# Altium integrated library Resistors$.IntLib: 1243 symbols (part 4 of 7)
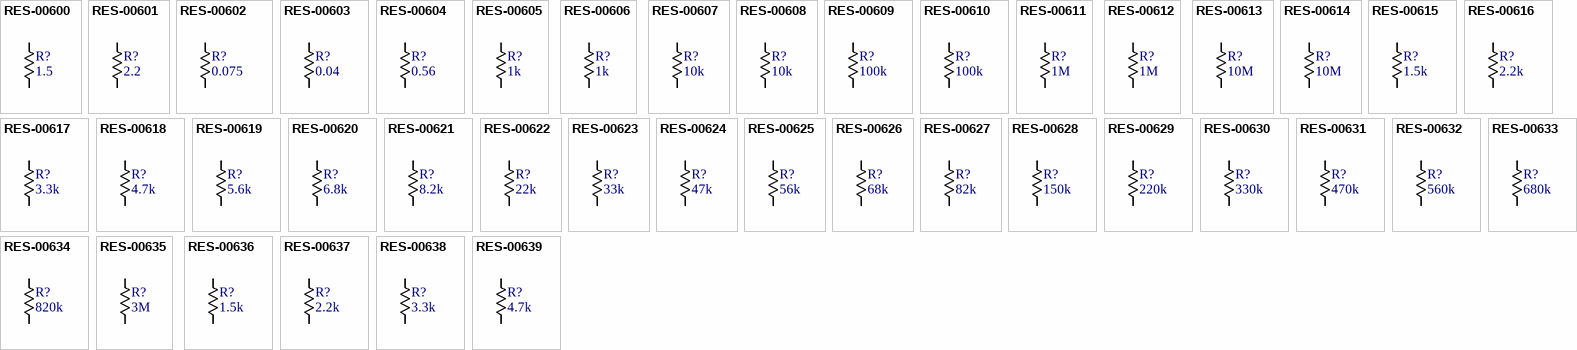
[diagram p35: symbols RES-00600 to RES-00639]

## RES-00618
designator R?, comment 4.7k
RES THT 4.7k OHM 1% 0.25W 0.3 AXIAL; Part Number: RES-00618; Resistance: 4.7k; Tolerance: 1%; Power Rating: 0.25W
footprint axial_0.3
pins: 1, 2

## RES-00619
designator R?, comment 5.6k
RES THT 5.6k OHM 1% 0.25W 0.3 AXIAL; Part Number: RES-00619; Resistance: 5.6k; Tolerance: 1%; Power Rating: 0.25W
footprint axial_0.3
pins: 1, 2

## RES-00620
designator R?, comment 6.8k
RES THT 6.8k OHM 1% 0.25W 0.3 AXIAL; Part Number: RES-00620; Resistance: 6.8k; Tolerance: 1%; Power Rating: 0.25W
footprint axial_0.3
pins: 1, 2

## RES-00621
designator R?, comment 8.2k
RES THT 8.2k OHM 1% 0.25W 0.3 AXIAL; Part Number: RES-00621; Resistance: 8.2k; Tolerance: 1%; Power Rating: 0.25W
footprint axial_0.3
pins: 1, 2

## RES-00622
designator R?, comment 22k
RES THT 22k OHM 1% 0.25W 0.3 AXIAL; Part Number: RES-00622; Resistance: 22k; Tolerance: 1%; Power Rating: 0.25W
footprint axial_0.3
pins: 1, 2

## RES-00623
designator R?, comment 33k
RES THT 33k OHM 1% 0.25W 0.3 AXIAL; Part Number: RES-00623; Resistance: 33k; Tolerance: 1%; Power Rating: 0.25W
footprint axial_0.3
pins: 1, 2

## RES-00624
designator R?, comment 47k
RES THT 47k OHM 1% 0.25W 0.3 AXIAL; Part Number: RES-00624; Resistance: 47k; Tolerance: 1%; Power Rating: 0.25W
footprint axial_0.3
pins: 1, 2

## RES-00625
designator R?, comment 56k
RES THT 56k OHM 1% 1/4W 0.3 AXIAL; Part Number: RES-00625; Resistance: 56k; Tolerance: 1%; Power Rating: 1/4W
footprint axial_0.3
pins: 1, 2

## RES-00626
designator R?, comment 68k
RES THT 68k OHM 1% 0.25W 0.3 AXIAL; Part Number: RES-00626; Resistance: 68k; Tolerance: 1%; Power Rating: 0.25W
footprint axial_0.3
pins: 1, 2

## RES-00627
designator R?, comment 82k
RES THT 82k OHM 1% 0.25W 0.3 AXIAL; Part Number: RES-00627; Resistance: 82k; Tolerance: 1%; Power Rating: 0.25W
footprint axial_0.3
pins: 1, 2

## RES-00628
designator R?, comment 150k
RES THT 150k OHM 1% 0.25W 0.3 AXIAL; Part Number: RES-00628; Resistance: 150k; Tolerance: 1%; Power Rating: 0.25W
footprint axial_0.3
pins: 1, 2

## RES-00629
designator R?, comment 220k
RES THT 220k OHM 1% 0.25W 0.3 AXIAL; Part Number: RES-00629; Resistance: 220k; Tolerance: 1%; Power Rating: 0.25W
footprint axial_0.3
pins: 1, 2

## RES-00630
designator R?, comment 330k
RES THT 330k OHM 1% 0.25W 0.3 AXIAL; Part Number: RES-00630; Resistance: 330k; Tolerance: 1%; Power Rating: 0.25W
footprint axial_0.3
pins: 1, 2

## RES-00631
designator R?, comment 470k
RES THT 470k OHM 1% 0.25W 0.3 AXIAL; Part Number: RES-00631; Resistance: 470k; Tolerance: 1%; Power Rating: 0.25W
footprint axial_0.3
pins: 1, 2

## RES-00632
designator R?, comment 560k
RES THT 560k OHM 1% 0.25W 0.3 AXIAL; Part Number: RES-00632; Resistance: 560k; Tolerance: 1%; Power Rating: 0.25W
footprint axial_0.3
pins: 1, 2

## RES-00633
designator R?, comment 680k
RES THT 680k OHM 1% 0.25W 0.3 AXIAL; Part Number: RES-00633; Resistance: 680k; Tolerance: 1%; Power Rating: 0.25W
footprint axial_0.3
pins: 1, 2

## RES-00634
designator R?, comment 820k
RES THT 820k OHM 1% 0.25W 0.3 AXIAL; Part Number: RES-00634; Resistance: 820k; Tolerance: 1%; Power Rating: 0.25W
footprint axial_0.3
pins: 1, 2

## RES-00635
designator R?, comment 3M
RES THT 3M OHM 1% 1/4W 0.3 AXIAL; Part Number: RES-00635; Resistance: 3M; Tolerance: 1%; Power Rating: 1/4W
footprint axial_0.3
pins: 1, 2

## RES-00636
designator R?, comment 1.5k
RES THT 1.5k OHM 1% 0.25W 0.4 AXIAL; Part Number: RES-00636; Resistance: 1.5k; Tolerance: 1%; Power Rating: 0.25W
footprint axial_0.4
pins: 1, 2

## RES-00637
designator R?, comment 2.2k
RES THT 2.2k OHM 1% 0.25W 0.4 AXIAL; Part Number: RES-00637; Resistance: 2.2k; Tolerance: 1%; Power Rating: 0.25W
footprint axial_0.4
pins: 1, 2

## RES-00638
designator R?, comment 3.3k
RES THT 3.3k OHM 1% 0.25W 0.4 AXIAL; Part Number: RES-00638; Resistance: 3.3k; Tolerance: 1%; Power Rating: 0.25W
footprint axial_0.4
pins: 1, 2

## RES-00639
designator R?, comment 4.7k
RES THT 4.7k OHM 1% 0.25W 0.4 AXIAL; Part Number: RES-00639; Resistance: 4.7k; Tolerance: 1%; Power Rating: 0.25W
footprint axial_0.4
pins: 1, 2

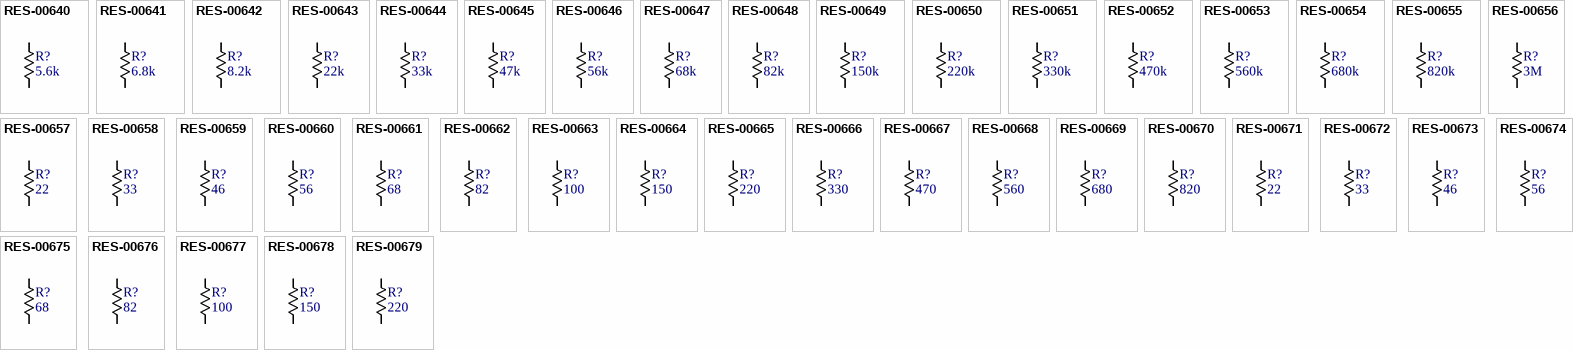
[diagram p16: symbols RES-00640 to RES-00679]

## RES-00640
designator R?, comment 5.6k
RES THT 5.6k OHM 1% 0.25W 0.4 AXIAL; Part Number: RES-00640; Resistance: 5.6k; Tolerance: 1%; Power Rating: 0.25W
footprint axial_0.4
pins: 1, 2

## RES-00641
designator R?, comment 6.8k
RES THT 6.8k OHM 1% 0.25W 0.4 AXIAL; Part Number: RES-00641; Resistance: 6.8k; Tolerance: 1%; Power Rating: 0.25W
footprint axial_0.4
pins: 1, 2

## RES-00642
designator R?, comment 8.2k
RES THT 8.2k OHM 1% 0.25W 0.4 AXIAL; Part Number: RES-00642; Resistance: 8.2k; Tolerance: 1%; Power Rating: 0.25W
footprint axial_0.4
pins: 1, 2

## RES-00643
designator R?, comment 22k
RES THT 22k OHM 1% 0.25W 0.4 AXIAL; Part Number: RES-00643; Resistance: 22k; Tolerance: 1%; Power Rating: 0.25W
footprint axial_0.4
pins: 1, 2

## RES-00644
designator R?, comment 33k
RES THT 33k OHM 1% 0.25W 0.4 AXIAL; Part Number: RES-00644; Resistance: 33k; Tolerance: 1%; Power Rating: 0.25W
footprint axial_0.4
pins: 1, 2

## RES-00645
designator R?, comment 47k
RES THT 47k OHM 1% 1/4W 0.4 AXIAL; Part Number: RES-00645; Resistance: 47k; Tolerance: 1%; Power Rating: 1/4W
footprint axial_0.4
pins: 1, 2

## RES-00646
designator R?, comment 56k
RES THT 56k OHM 1% 0.25W 0.4 AXIAL; Part Number: RES-00646; Resistance: 56k; Tolerance: 1%; Power Rating: 0.25W
footprint axial_0.4
pins: 1, 2

## RES-00647
designator R?, comment 68k
RES THT 68k OHM 1% 0.25W 0.4 AXIAL; Part Number: RES-00647; Resistance: 68k; Tolerance: 1%; Power Rating: 0.25W
footprint axial_0.4
pins: 1, 2

## RES-00648
designator R?, comment 82k
RES THT 82k OHM 1% 0.25W 0.4 AXIAL; Part Number: RES-00648; Resistance: 82k; Tolerance: 1%; Power Rating: 0.25W
footprint axial_0.4
pins: 1, 2

## RES-00649
designator R?, comment 150k
RES THT 150k OHM 1% 0.25W 0.4 AXIAL; Part Number: RES-00649; Resistance: 150k; Tolerance: 1%; Power Rating: 0.25W
footprint axial_0.4
pins: 1, 2

## RES-00650
designator R?, comment 220k
RES THT 220k OHM 1% 0.25W 0.4 AXIAL; Part Number: RES-00650; Resistance: 220k; Tolerance: 1%; Power Rating: 0.25W
footprint axial_0.4
pins: 1, 2

## RES-00651
designator R?, comment 330k
RES THT 330k OHM 1% 0.25W 0.4 AXIAL; Part Number: RES-00651; Resistance: 330k; Tolerance: 1%; Power Rating: 0.25W
footprint axial_0.4
pins: 1, 2

## RES-00652
designator R?, comment 470k
RES THT 470k OHM 1% 0.25W 0.4 AXIAL; Part Number: RES-00652; Resistance: 470k; Tolerance: 1%; Power Rating: 0.25W
footprint axial_0.4
pins: 1, 2

## RES-00653
designator R?, comment 560k
RES THT 560k OHM 1% 0.25W 0.4 AXIAL; Part Number: RES-00653; Resistance: 560k; Tolerance: 1%; Power Rating: 0.25W
footprint axial_0.4
pins: 1, 2

## RES-00654
designator R?, comment 680k
RES THT 680k OHM 1% 0.25W 0.4 AXIAL; Part Number: RES-00654; Resistance: 680k; Tolerance: 1%; Power Rating: 0.25W
footprint axial_0.4
pins: 1, 2

## RES-00655
designator R?, comment 820k
RES THT 820k OHM 1% 1/4W 0.4 AXIAL; Part Number: RES-00655; Resistance: 820k; Tolerance: 1%; Power Rating: 1/4W
footprint axial_0.4
pins: 1, 2

## RES-00656
designator R?, comment 3M
RES THT 3M OHM 1% 1/4W 0.4 AXIAL; Part Number: RES-00656; Resistance: 3M; Tolerance: 1%; Power Rating: 1/4W
footprint axial_0.4
pins: 1, 2

## RES-00657
designator R?, comment 22
RES THT 22 OHM 1% 0.25W 0.3 AXIAL; Part Number: RES-00657; Resistance: 22; Tolerance: 1%; Power Rating: 0.25W
footprint axial_0.3
pins: 1, 2

## RES-00658
designator R?, comment 33
RES THT 33 OHM 1% 0.25W 0.3 AXIAL; Part Number: RES-00658; Resistance: 33; Tolerance: 1%; Power Rating: 0.25W
footprint axial_0.3
pins: 1, 2

## RES-00659
designator R?, comment 46
RES THT 46 OHM 1% 0.25W 0.3 AXIAL; Part Number: RES-00659; Resistance: 46; Tolerance: 1%; Power Rating: 0.25W
footprint axial_0.3
pins: 1, 2

## RES-00660
designator R?, comment 56
RES THT 56 OHM 1% 0.25W 0.3 AXIAL; Part Number: RES-00660; Resistance: 56; Tolerance: 1%; Power Rating: 0.25W
footprint axial_0.3
pins: 1, 2

## RES-00661
designator R?, comment 68
RES THT 68 OHM 1% 0.25W 0.3 AXIAL; Part Number: RES-00661; Resistance: 68; Tolerance: 1%; Power Rating: 0.25W
footprint axial_0.3
pins: 1, 2

## RES-00662
designator R?, comment 82
RES THT 82 OHM 1% 0.25W 0.3 AXIAL; Part Number: RES-00662; Resistance: 82; Tolerance: 1%; Power Rating: 0.25W
footprint axial_0.3
pins: 1, 2

## RES-00663
designator R?, comment 100
RES THT 100 OHM 1% 0.25W 0.3 AXIAL; Part Number: RES-00663; Resistance: 100; Tolerance: 1%; Power Rating: 0.25W
footprint axial_0.3
pins: 1, 2

## RES-00664
designator R?, comment 150
RES THT 150 OHM 1% 0.25W 0.3 AXIAL; Part Number: RES-00664; Resistance: 150; Tolerance: 1%; Power Rating: 0.25W
footprint axial_0.3
pins: 1, 2

## RES-00665
designator R?, comment 220
RES THT 220 OHM 1% 0.25W 0.3 AXIAL; Part Number: RES-00665; Resistance: 220; Tolerance: 1%; Power Rating: 0.25W
footprint axial_0.3
pins: 1, 2

## RES-00666
designator R?, comment 330
RES THT 330 OHM 1% 0.25W 0.3 AXIAL; Part Number: RES-00666; Resistance: 330; Tolerance: 1%; Power Rating: 0.25W
footprint axial_0.3
pins: 1, 2

## RES-00667
designator R?, comment 470
RES THT 470 OHM 1% 0.25W 0.3 AXIAL; Part Number: RES-00667; Resistance: 470; Tolerance: 1%; Power Rating: 0.25W
footprint axial_0.3
pins: 1, 2

## RES-00668
designator R?, comment 560
RES THT 560 OHM 1% 0.25W 0.3 AXIAL; Part Number: RES-00668; Resistance: 560; Tolerance: 1%; Power Rating: 0.25W
footprint axial_0.3
pins: 1, 2

## RES-00669
designator R?, comment 680
RES THT 680 OHM 1% 0.25W 0.3 AXIAL; Part Number: RES-00669; Resistance: 680; Tolerance: 1%; Power Rating: 0.25W
footprint axial_0.3
pins: 1, 2

## RES-00670
designator R?, comment 820
RES THT 820 OHM 1% 0.25W 0.3 AXIAL; Part Number: RES-00670; Resistance: 820; Tolerance: 1%; Power Rating: 0.25W
footprint axial_0.3
pins: 1, 2

## RES-00671
designator R?, comment 22
RES THT 22 OHM 1% 0.25W 0.4 AXIAL; Part Number: RES-00671; Resistance: 22; Tolerance: 1%; Power Rating: 0.25W
footprint axial_0.4
pins: 1, 2

## RES-00672
designator R?, comment 33
RES THT 33 OHM 1% 0.25W 0.4 AXIAL; Part Number: RES-00672; Resistance: 33; Tolerance: 1%; Power Rating: 0.25W
footprint axial_0.4
pins: 1, 2

## RES-00673
designator R?, comment 46
RES THT 46 OHM 1% 0.25W 0.4 AXIAL; Part Number: RES-00673; Resistance: 46; Tolerance: 1%; Power Rating: 0.25W
footprint axial_0.4
pins: 1, 2

## RES-00674
designator R?, comment 56
RES THT 56 OHM 1% 0.25W 0.4 AXIAL; Part Number: RES-00674; Resistance: 56; Tolerance: 1%; Power Rating: 0.25W
footprint axial_0.4
pins: 1, 2

## RES-00675
designator R?, comment 68
RES THT 68 OHM 1% 0.25W 0.4 AXIAL; Part Number: RES-00675; Resistance: 68; Tolerance: 1%; Power Rating: 0.25W
footprint axial_0.4
pins: 1, 2

## RES-00676
designator R?, comment 82
RES THT 82 OHM 1% 0.25W 0.4 AXIAL; Part Number: RES-00676; Resistance: 82; Tolerance: 1%; Power Rating: 0.25W
footprint axial_0.4
pins: 1, 2

## RES-00677
designator R?, comment 100
RES THT 100 OHM 1% 1/4W 0.4 AXIAL; Part Number: RES-00677; Resistance: 100; Tolerance: 1%; Power Rating: 1/4W
footprint axial_0.4
pins: 1, 2

## RES-00678
designator R?, comment 150
RES THT 150 OHM 1% 1/4W 0.4 AXIAL; Part Number: RES-00678; Resistance: 150; Tolerance: 1%; Power Rating: 1/4W
footprint axial_0.4
pins: 1, 2

## RES-00679
designator R?, comment 220
RES THT 220 OHM 1% 0.25W 0.4 AXIAL; Part Number: RES-00679; Resistance: 220; Tolerance: 1%; Power Rating: 0.25W
footprint axial_0.4
pins: 1, 2

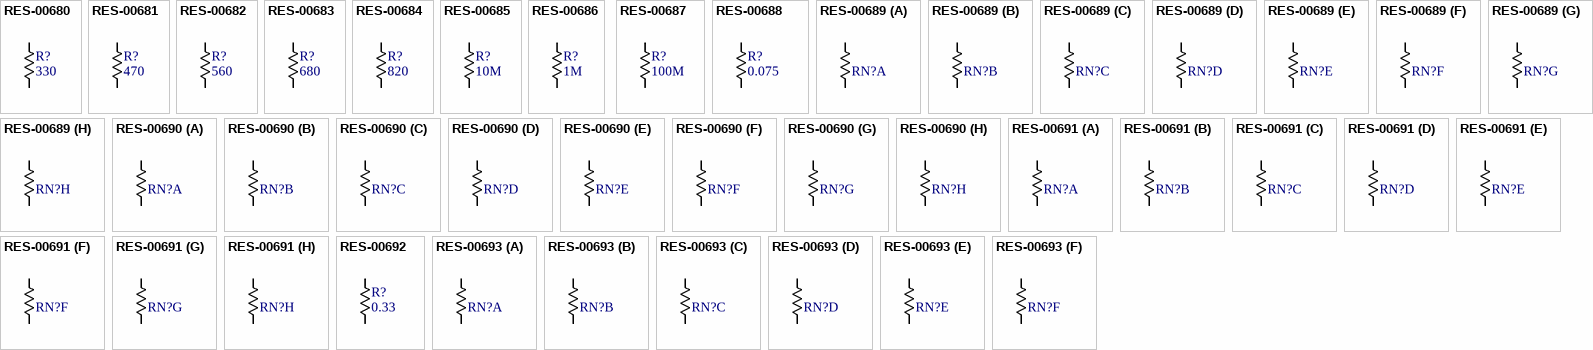
[diagram p17: symbols RES-00680 to RES-00693]

## RES-00680
designator R?, comment 330
RES THT 330 OHM 1% 0.25W 0.4 AXIAL; Part Number: RES-00680; Resistance: 330; Tolerance: 1%; Power Rating: 0.25W
footprint axial_0.4
pins: 1, 2

## RES-00681
designator R?, comment 470
RES THT 470 OHM 1% 0.25W 0.4 AXIAL; Part Number: RES-00681; Resistance: 470; Tolerance: 1%; Power Rating: 0.25W
footprint axial_0.4
pins: 1, 2

## RES-00682
designator R?, comment 560
RES THT 560 OHM 1% 0.25W 0.4 AXIAL; Part Number: RES-00682; Resistance: 560; Tolerance: 1%; Power Rating: 0.25W
footprint axial_0.4
pins: 1, 2

## RES-00683
designator R?, comment 680
RES THT 680 OHM 1% 0.25W 0.4 AXIAL; Part Number: RES-00683; Resistance: 680; Tolerance: 1%; Power Rating: 0.25W
footprint axial_0.4
pins: 1, 2

## RES-00684
designator R?, comment 820
RES THT 820 OHM 1% 0.25W 0.4 AXIAL; Part Number: RES-00684; Resistance: 820; Tolerance: 1%; Power Rating: 0.25W
footprint axial_0.4
pins: 1, 2

## RES-00685
designator R?, comment 10M
RES THT 10M OHM 1% 0.6W 0.4 AXIAL; Part Number: RES-00685; Manufacturer: Vishay BC Components; Manufacturer PN: MBB02070C1005FCT00; Resistance: 10M; Tolerance: 1%; Power Rating: 0.6W
footprint axial_0.4_1
pins: 1, 2

## RES-00686
designator R?, comment 1M
RES THT 1M OHM 1% 0.6W 0.4 AXIAL; Part Number: RES-00686; Manufacturer: Vishay BC Components; Manufacturer PN: MBB02070C1004FRP00; Resistance: 1M; Tolerance: 1%; Power Rating: 0.6W
footprint axial_0.4_1
pins: 1, 2

## RES-00687
designator R?, comment 100M
RES THT 100M OHM 1% 0.5W 0.4 AXIAL; Part Number: RES-00687; Manufacturer: Vishay Dale; Manufacturer PN: RNX025100MFKEE; Resistance: 100M; Tolerance: 1%; Power Rating: 0.5W
footprint axial_0.5
pins: 1, 2

## RES-00688
designator R?, comment 0.075
RES THT 0.075 OHM 1% 100W TO-247-2 Board Mounted; Part Number: RES-00688; Manufacturer: Caddock; Manufacturer PN: MP9100-0.075-1%; Resistance: 0.075; Tolerance: 1%; Power Rating: 100W
footprint TO-247-2-H
pins: 1, 2

## RES-00689
designator RN?, comment res_array_8  (value not drawn)
RES ARRAY 8 RES 100k OHM 5% 1/16W 1506; Part Number: RES-00689; Manufacturer: Panasonic; Manufacturer PN: EXB-2HV104JV; Resistance: 100k; Tolerance: 5%; Power Rating: 1/16W
footprint chip_1506
part A pins: 1, 16
part B pins: 2, 15
part C pins: 3, 14
part D pins: 4, 13
part E pins: 5, 12
part F pins: 6, 11
part G pins: 7, 10
part H pins: 8, 9

## RES-00690
designator RN?, comment res_array_8  (value not drawn)
RES ARRAY 8 RES 10k OHM 5% 1/16W 1506; Part Number: RES-00690; Manufacturer: Panasonic; Manufacturer PN: EXB-2HV103JV; Resistance: 10k; Tolerance: 5%; Power Rating: 1/16W
footprint chip_1506
part A pins: 1, 16
part B pins: 2, 15
part C pins: 3, 14
part D pins: 4, 13
part E pins: 5, 12
part F pins: 6, 11
part G pins: 7, 10
part H pins: 8, 9

## RES-00691
designator RN?, comment res_array_8  (value not drawn)
RES ARRAY 8 RES 120 OHM 5% 1/16W 1506; Part Number: RES-00691; Manufacturer: Panasonic; Manufacturer PN: EXB-2HV121JV; Resistance: 120; Tolerance: 5%; Power Rating: 1/16W
footprint chip_1506
part A pins: 1, 16
part B pins: 2, 15
part C pins: 3, 14
part D pins: 4, 13
part E pins: 5, 12
part F pins: 6, 11
part G pins: 7, 10
part H pins: 8, 9

## RES-00692
designator R?, comment 0.33
RES SMD 0.33 OHM 1% 1W 2512; Part Number: RES-00692; Manufacturer: Panasonic; Manufacturer PN: ERJ-1TRQFR33U; Resistance: 0.33; Tolerance: 1%; Power Rating: 1W; Cost: 0.64
footprint chip_2512
pins: 1, 2

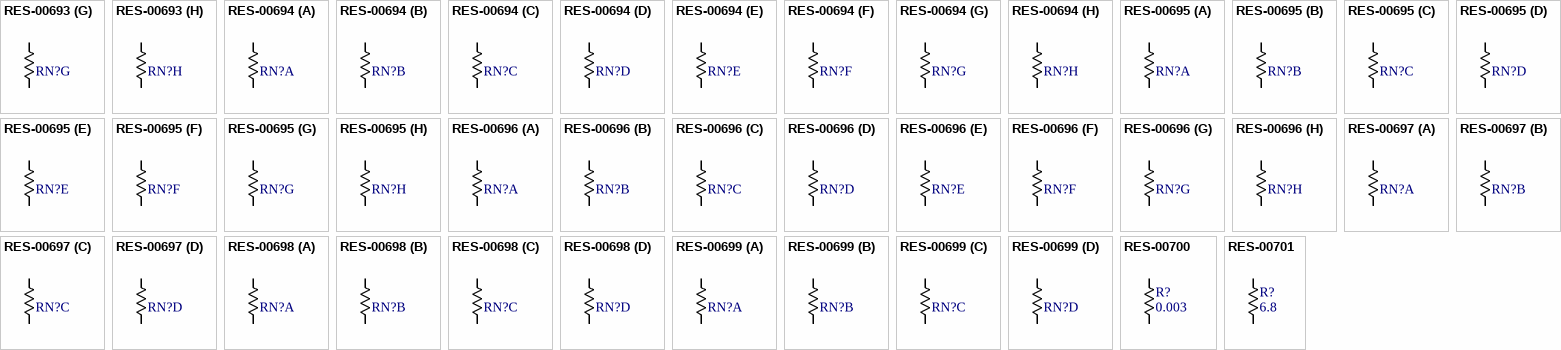
[diagram p18: symbols RES-00693 to RES-00701]

## RES-00693
designator RN?, comment res_array_8  (value not drawn)
RES ARRAY 8 RES 470 OHM 5% 1/16W 1506; Part Number: RES-00693; Manufacturer: Panasonic; Manufacturer PN: EXB-2HV471JV; Resistance: 470; Tolerance: 5%; Power Rating: 1/16W; Cost: 0.29
footprint chip_1506
part A pins: 1, 16
part B pins: 2, 15
part C pins: 3, 14
part D pins: 4, 13
part E pins: 5, 12
part F pins: 6, 11
part G pins: 7, 10
part H pins: 8, 9

## RES-00694
designator RN?, comment res_array_8  (value not drawn)
RES ARRAY 8 RES 10k OHM 5% 1/16W 2506; Part Number: RES-00694; Manufacturer: CTS Resistor Products; Manufacturer PN: 742C163103JP; Resistance: 10k; Tolerance: 5%; Power Rating: 1/16W; Cost: 0.61
footprint chip_2506
part A pins: 1, 16
part B pins: 2, 15
part C pins: 3, 14
part D pins: 4, 13
part E pins: 5, 12
part F pins: 6, 11
part G pins: 7, 10
part H pins: 8, 9

## RES-00695
designator RN?, comment res_array_8  (value not drawn)
RES ARRAY 8 RES 470 OHM 5% 1/16W 2506; Part Number: RES-00695; Manufacturer: CTS Resistor Products; Manufacturer PN: 742C163471JP; Resistance: 470; Tolerance: 5%; Power Rating: 1/16W; Cost: 0.61
footprint chip_2506
part A pins: 1, 16
part B pins: 2, 15
part C pins: 3, 14
part D pins: 4, 13
part E pins: 5, 12
part F pins: 6, 11
part G pins: 7, 10
part H pins: 8, 9

## RES-00696
designator RN?, comment res_array_8  (value not drawn)
RES ARRAY 8 RES 120 OHM 2% 160mW 16-SOIC; Part Number: RES-00696; Manufacturer: Bourns; Manufacturer PN: 4816P-1-121LF; Resistance: 120; Tolerance: 2%; Power Rating: 160mW; Cost: 1.31
footprint SO-16
part A pins: 1, 16
part B pins: 2, 15
part C pins: 3, 14
part D pins: 4, 13
part E pins: 5, 12
part F pins: 6, 11
part G pins: 7, 10
part H pins: 8, 9

## RES-00697
designator RN?, comment res_array_4  (value not drawn)
RES ARRAY 4 RES 10k OHM 5% 1/16W 1206; Part Number: RES-00697; Manufacturer: CTS Resistor Products; Manufacturer PN: 742C083103JP; Resistance: 10k; Tolerance: 5%; Power Rating: 1/16W; Cost: 0.27
footprint chip_1206_arr
part A pins: 1, 8
part B pins: 2, 7
part C pins: 3, 6
part D pins: 4, 5

## RES-00698
designator RN?, comment res_array_4  (value not drawn)
RES ARRAY 4 RES 470 OHM 5% 1/16W 1206; Part Number: RES-00698; Manufacturer: Panasonic; Manufacturer PN: EXB-38V471JV; Resistance: 470; Tolerance: 5%; Power Rating: 1/16W; Cost: 0.1
footprint chip_1206_arr
part A pins: 1, 8
part B pins: 2, 7
part C pins: 3, 6
part D pins: 4, 5

## RES-00699
designator RN?, comment res_array_4  (value not drawn)
RES ARRAY 4 RES 1.5k OHM 5% 1/16W 1206; Part Number: RES-00699; Manufacturer: Panasonic; Manufacturer PN: EXB-28V152JX; Resistance: 1.5k; Tolerance: 5%; Power Rating: 1/16W; Cost: 0.1
footprint chip_1206_arr
part A pins: 1, 8
part B pins: 2, 7
part C pins: 3, 6
part D pins: 4, 5

## RES-00700
designator R?, comment 0.003
RES SMD 0.003 OHM 1% 7W 2818; Part Number: RES-00700; Manufacturer: Vishay Dale; Manufacturer PN: WSHM28183L000FEA; Resistance: 0.003; Tolerance: 1%; Power Rating: 7W; Cost: 1.86
footprint CHIP_2818_VISHAY
pins: 1, 2

## RES-00701
designator R?, comment 6.8
RES SMD 6.8 OHM 5% 1.5W 2512; Part Number: RES-00701; Manufacturer: Stackpole; Manufacturer PN: RPC2512JT6R80; Resistance: 6.8; Tolerance: 5%; Power Rating: 1.5W; Cost: 0.57
footprint chip_2512
pins: 1, 2

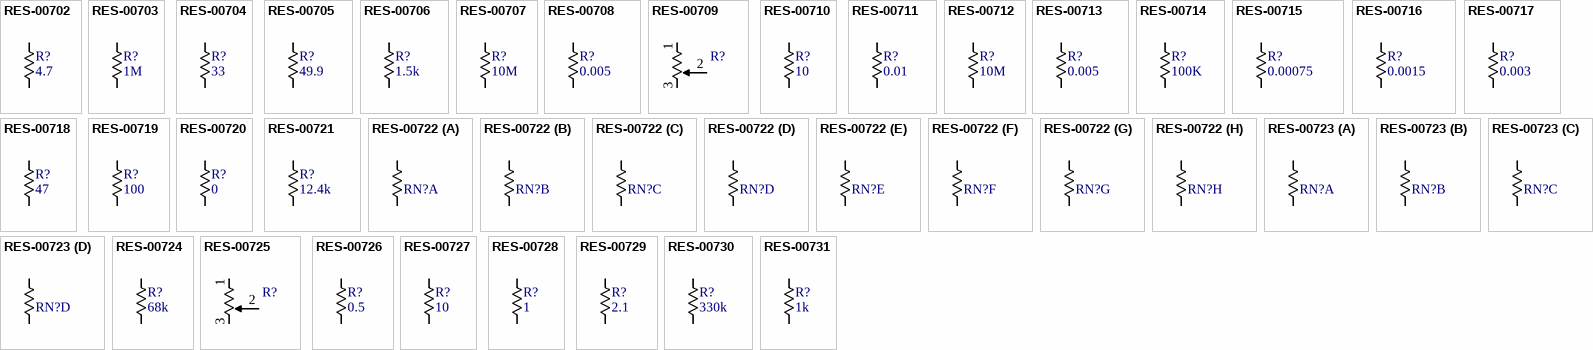
[diagram p19: symbols RES-00702 to RES-00731]

## RES-00702
designator R?, comment 4.7
RES SMD 4.7 OHM 5% 2W 2512; Part Number: RES-00702; Manufacturer: Bourns; Manufacturer PN: CRM2512-JW-4R7ELF; Resistance: 4.7; Tolerance: 5%; Power Rating: 2W; Cost: 0.57
footprint chip_2512
pins: 1, 2

## RES-00703
designator R?, comment 1M
RES SMD 1M OHM 1% 1W 2512, High Voltage, Thick Film; Part Number: RES-00703; Manufacturer: Bourns; Manufacturer PN: CHV2512-FX-1004ELF; Resistance: 1M; Tolerance: 1%; Power Rating: 1W; Cost: 0.66
footprint chip_2512
pins: 1, 2

## RES-00704
designator R?, comment 33
RES SMD 33 OHM 5% 1.5W 2512; Part Number: RES-00704; Manufacturer: Stackpole; Manufacturer PN: RPC2512JT33R0; Resistance: 33; Tolerance: 5%; Power Rating: 1.5W; Cost: 0.57
footprint chip_2512
pins: 1, 2

## RES-00705
designator R?, comment 49.9
RES SMD 49.9 OHM 1% 1/10W 0603; Part Number: RES-00705; Manufacturer: Yageo; Manufacturer PN: RC0603FR-0749R9L; Resistance: 49.9; Tolerance: 1%; Power Rating: 1/10W; Cost: 0.1
footprint chip_0603
pins: 1, 2

## RES-00706
designator R?, comment 1.5k
RES SMD 1.5K OHM 1% 1/4W 1206; Part Number: RES-00706; Manufacturer: Bourns; Manufacturer PN: CR1206-FX-1501ELF; Resistance: 1.5k; Tolerance: 1%; Power Rating: 1/4W; Cost: 0.1
footprint chip_1206
pins: 1, 2

## RES-00707
designator R?, comment 10M
RES SMD 10M OHM 1% 1W 2512, High Voltage, Thick Film; Part Number: RES-00707; Manufacturer: Bourns; Manufacturer PN: CHV2512-FX-1005ELF; Resistance: 10M; Tolerance: 1%; Power Rating: 1W; Cost: 0.66
footprint chip_2512
pins: 1, 2

## RES-00708
designator R?, comment 0.005
RES SMD 0.005 OHM 1% 3W 2512, Current Sense, 50ppm/°C; Part Number: RES-00708; Manufacturer: Bourns; Manufacturer PN: CRE2512-FZ-R005E-3; Resistance: 0.005; Tolerance: 1%; Power Rating: 3W; Cost: 0.81
footprint chip_2512_cs
pins: 1, 2

## RES-00709
designator R?, comment res_single_pot  (value not drawn)
VARRES, 10K, 20% 250mW, SMD; Part Number: RES-00709; Manufacturer: Bourns; Manufacturer PN: PVG3A103C01R00; Power Rating: 1/4W; Resistance: 10k; Tolerance: 20%; Cost: 1.57
footprint BOURNS_PVG3A103C01R00
pins: 1, 2, 3

## RES-00710
designator R?, comment 10
RES THT 10 OHM 5% 2W AXIAL, Fusible; Part Number: RES-00710; Manufacturer: Bourns; Manufacturer PN: FW20A10R0JA; Resistance: 10; Tolerance: 5%; Power Rating: 2W; Cost: 0.58
footprint BOURNS_FWXXA
pins: 1, 2

## RES-00711
designator R?, comment 0.01
RES SMD 0.01 OHM 1% 3W 2512, Current Sense; Part Number: RES-00711; Manufacturer: Bourns; Manufacturer PN: CRA2512-FZ-R010ELF; Resistance: 0.01; Tolerance: 1%; Power Rating: 3W; Cost: 0.66
footprint chip_2512_cs
pins: 1, 2

## RES-00712
designator R?, comment 10M
RES SMD 10M OHM 1% 1/4W 1206, High Voltage; Part Number: RES-00712; Manufacturer: Rohm Semiconductor; Manufacturer PN: KTR18EZPF1005; Resistance: 10M; Tolerance: 1%; Power Rating: 1/4W; Cost: 0.2
footprint chip_1206
pins: 1, 2

## RES-00713
designator R?, comment 0.005
RES SMD 0.005 OHM 1% 4W 2728 25ppm, Current Sense; Part Number: RES-00713; Manufacturer: Stackpole; Manufacturer PN: CSSH2728FT5L00; Resistance: 0.005; Tolerance: 1%; Power Rating: 4W; Cost: 1.19
footprint chip_2728
pins: 1, 2

## RES-00714
designator R?, comment 100K
RES SMD 100K OHM 1% 1/4W 1206 Thick Film; Part Number: RES-00714; Manufacturer: Yageo; Manufacturer PN: RC1206FR-07100KL; Resistance: 100K; Tolerance: 1%; Power Rating: 1/4W; Cost: 0.1
footprint chip_1206
pins: 1, 2

## RES-00715
designator R?, comment 0.00075
RES SMD 0.00075 OHM 1% 2W 2512 50ppm, Current Sense; Part Number: RES-00715; Manufacturer: TE Connectivity; Manufacturer PN: TLR3A20DR00075FTDG; Resistance: 0.00075; Tolerance: 1%; Power Rating: 2W; Cost: 0.92
footprint chip_2512
pins: 1, 2

## RES-00716
designator R?, comment 0.0015
RES SMD 0.0015 OHM 1% 3W 2512 50ppm, Current Sense; Part Number: RES-00716; Manufacturer: TE Connectivity; Manufacturer PN: TLR3A30DR0015FTDG; Resistance: 0.0015; Tolerance: 1%; Power Rating: 3W; Cost: 1.04
footprint chip_2512
pins: 1, 2

## RES-00717
designator R?, comment 0.003
RES SMD 0.003 OHM 1%  1W 1206 50ppm, Current Sense; Part Number: RES-00717; Manufacturer: TE Connectivity; Manufacturer PN: TLR2B10DR003FTDG; Resistance: 0.003; Tolerance: 1%; Power Rating: 1W; Cost: 0.92
footprint chip_1206
pins: 1, 2

## RES-00718
designator R?, comment 47
RES THT 47 OHM 5% 2W AXIAL, Fusible; Part Number: RES-00718; Manufacturer: Bourns; Manufacturer PN: FW20A47R0JA; Resistance: 47; Tolerance: 5%; Power Rating: 2W; Cost: 0.58
footprint BOURNS_FWXXA
pins: 1, 2

## RES-00719
designator R?, comment 100
RES THT 100 OHM 5% 4W AXIAL, Fusible; Part Number: RES-00719; Manufacturer: Stackpole; Manufacturer PN: SP3AJT100R; Resistance: 100; Tolerance: 5%; Power Rating: 4W; Cost: 0.6
footprint BOURNS_FWXXA
pins: 1, 2

## RES-00720
designator R?, comment 0
RES SMD 0 OHM 1/8W 0805 Thick Film; Part Number: RES-00720; Manufacturer: Stackpole; Manufacturer PN: RMCF0805ZT0R00; Tolerance: Jumper; Resistance: 0; Power Rating: 1/8W; Cost: 0.1
footprint chip_0805
pins: 1, 2

## RES-00721
designator R?, comment 12.4k
RES SMD 12.4K OHM 1% 1/10W 0603; Part Number: RES-00721; Manufacturer: Stackpole; Manufacturer PN: RMCF0603FT12K4; Resistance: 12.4k; Tolerance: 1%; Power Rating: 1/10W; Cost: 0.1
footprint chip_0603
pins: 1, 2

## RES-00722
designator RN?, comment res_array_8  (value not drawn)
RES ARRAY 8 RES 100 OHM 5% 62.5mW 1506; Part Number: RES-00722; Manufacturer: Panasonic; Manufacturer PN: EXB-2HV101JV; Resistance: 100; Power Rating: 1/16W; Tolerance: 5%; Cost: 0.29
footprint chip_1506
part A pins: 1, 16
part B pins: 2, 15
part C pins: 3, 14
part D pins: 4, 13
part E pins: 5, 12
part F pins: 6, 11
part G pins: 7, 10
part H pins: 8, 9

## RES-00723
designator RN?, comment res_array_4  (value not drawn)
RES ARRAY 4 RES 100 OHM 5% 62.5mW 1206; Part Number: RES-00723; Manufacturer: Panasonic; Manufacturer PN: EXB-38V101JV; Resistance: 100; Power Rating: 1/16W; Tolerance: 5%; Cost: 0.1
footprint chip_1206_arr
part A pins: 1, 8
part B pins: 2, 7
part C pins: 3, 6
part D pins: 4, 5

## RES-00724
designator R?, comment 68k
RES SMD 68K OHM 1% 1/8W 0805 100ppm; Part Number: RES-00724; Manufacturer: Yageo; Manufacturer PN: RC0805FR-0768KL; Resistance: 68k; Tolerance: 1%; Power Rating: 1/8W; Cost: 0.1
footprint chip_0805
pins: 1, 2

## RES-00725
designator R?, comment res_single_pot  (value not drawn)
VARRES 10K 10% 0.5W THT; Part Number: RES-00725; Manufacturer: Bourns; Manufacturer PN: 3362P-1-103LF; Power Rating: 1/2W; Resistance: 10k; Tolerance: 10%; Cost: 1.02
footprint BOURNS_3362P-1-103LF
pins: 1, 2, 3

## RES-00726
designator R?, comment 0.5
RES THT 0.5 OHM 5% 2W Axial, Fusible; Part Number: RES-00726; Manufacturer: Yageo; Manufacturer PN: FKN2WSJR-73-0R5; Resistance: 0.5; Tolerance: 5%; Power Rating: 2W; Cost: 0.5
footprint AXIAL_0.5_1
pins: 1, 2

## RES-00727
designator R?, comment 10
RES THT 10 OHM 1% 1/4W Axial; Part Number: RES-00727; Resistance: 10; Tolerance: 1%; Power Rating: 1/4W
footprint AXIAL_0.4_2
pins: 1, 2

## RES-00728
designator R?, comment 1
RES SMD 1 OHM 1% 1/4W 1206 100ppm/°C; Part Number: RES-00728; Manufacturer: Vishay Dale; Manufacturer PN: CRCW12061R00FKEA; Resistance: 1; Tolerance: 1%; Power Rating: 1/4W; Cost: 0.1
footprint chip_1206
pins: 1, 2

## RES-00729
designator R?, comment 2.1
RES SMD 2.1 OHM 1% 1/4W 1206 100ppm/°C; Part Number: RES-00729; Manufacturer: Vishay Dale; Manufacturer PN: CRCW12062R10FKEA; Resistance: 2.1; Tolerance: 1%; Power Rating: 1/4W; Cost: 0.1
footprint chip_1206
pins: 1, 2

## RES-00730
designator R?, comment 330k
RES SMD 330K OHM 1% 1/4W 1206 100ppm/°C; Part Number: RES-00730; Manufacturer: Vishay Dale; Manufacturer PN: CRCW1206330KFKEA; Resistance: 330k; Tolerance: 1%; Power Rating: 1/4W; Cost: 0.1
footprint chip_1206
pins: 1, 2

## RES-00731
designator R?, comment 1k
RES SMD 1K OHM 1% 1/10W 0603; Part Number: RES-00731; Manufacturer: Vishay Dale; Manufacturer PN: CRCW06031K00FKEA; Resistance: 1k; Tolerance: ±1%; Power Rating: 1/10W; Cost: 0.1
footprint chip_0603
pins: 1, 2

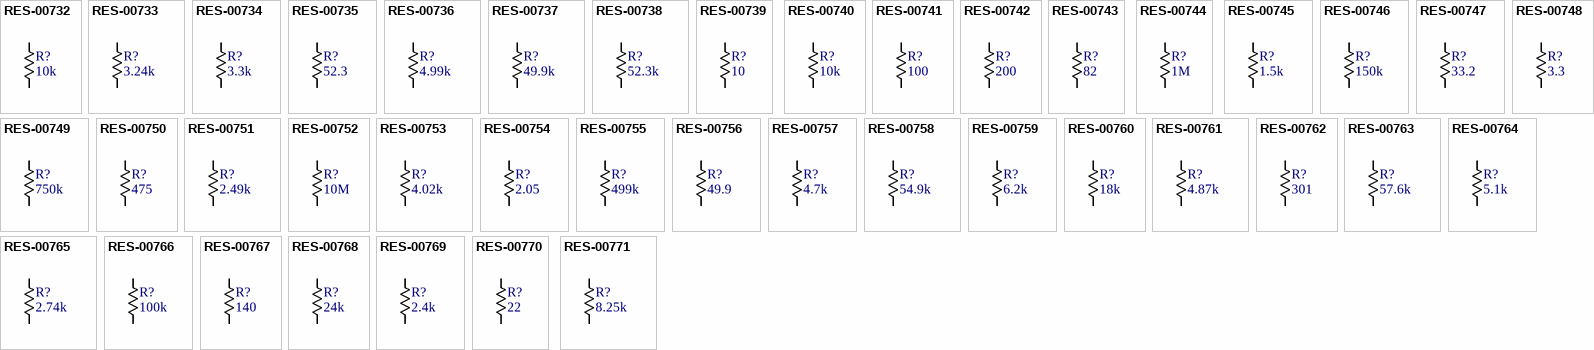
[diagram p20: symbols RES-00732 to RES-00771]

## RES-00732
designator R?, comment 10k
RES SMD 10K OHM 1% 1/10W 0603; Part Number: RES-00732; Manufacturer: Vishay Dale; Manufacturer PN: CRCW060310K0FKEA; Resistance: 10k; Tolerance: ±1%; Power Rating: 1/10W; Cost: 0.1
footprint chip_0603
pins: 1, 2

## RES-00733
designator R?, comment 3.24k
RES SMD 3.24K OHM 1% 1/10W 0603; Part Number: RES-00733; Manufacturer: Vishay Dale; Manufacturer PN: CRCW06033K24FKEA; Resistance: 3.24k; Tolerance: ±1%; Power Rating: 1/10W; Cost: 0.1
footprint chip_0603
pins: 1, 2

## RES-00734
designator R?, comment 3.3k
RES SMD 3.3K OHM 1% 1/10W 0603; Part Number: RES-00734; Manufacturer: Vishay Dale; Manufacturer PN: CRCW06033K30FKEA; Resistance: 3.3k; Tolerance: ±1%; Power Rating: 1/10W; Cost: 0.1
footprint chip_0603
pins: 1, 2

## RES-00735
designator R?, comment 52.3
RES SMD 52.3 OHM 1% 1/10W 0603; Part Number: RES-00735; Manufacturer: Vishay Dale; Manufacturer PN: CRCW060352R3FKEA; Resistance: 52.3; Tolerance: ±1%; Power Rating: 1/10W; Cost: 0.1
footprint chip_0603
pins: 1, 2

## RES-00736
designator R?, comment 4.99k
RES SMD 4.99K OHM 1% 1/10W 0603; Part Number: RES-00736; Manufacturer: Vishay Dale; Manufacturer PN: CRCW06034K99FKEA; Resistance: 4.99k; Tolerance: ±1%; Power Rating: 1/10W; Cost: 0.1
footprint chip_0603
pins: 1, 2

## RES-00737
designator R?, comment 49.9k
RES SMD 49.9K OHM 1% 1/10W 0603; Part Number: RES-00737; Manufacturer: Vishay Dale; Manufacturer PN: CRCW060349K9FKEA; Resistance: 49.9k; Tolerance: ±1%; Power Rating: 1/10W; Cost: 0.1
footprint chip_0603
pins: 1, 2

## RES-00738
designator R?, comment 52.3k
RES SMD 52.3K OHM 1% 1/10W 0603; Part Number: RES-00738; Manufacturer: Vishay Dale; Manufacturer PN: CRCW060352K3FKEA; Resistance: 52.3k; Tolerance: ±1%; Power Rating: 1/10W; Cost: 0.1
footprint chip_0603
pins: 1, 2

## RES-00739
designator R?, comment 10
RES SMD 10 OHM 1% 1/10W 0603; Part Number: RES-00739; Manufacturer: Vishay Dale; Manufacturer PN: CRCW060310R0FKEA; Resistance: 10; Tolerance: ±1%; Power Rating: 1/10W; Cost: 0.1
footprint chip_0603
pins: 1, 2

## RES-00740
designator R?, comment 10k
RES SMD 10K OHM 1% 1/10W 0603; Part Number: RES-00740; Manufacturer: Vishay Dale; Manufacturer PN: CRCW060310K0FKEC; Resistance: 10k; Tolerance: ±1%; Power Rating: 1/10W; Cost: 0.1
footprint chip_0603
pins: 1, 2

## RES-00741
designator R?, comment 100
RES SMD 100 OHM 1% 1/10W 0603; Part Number: RES-00741; Manufacturer: Vishay Dale; Manufacturer PN: CRCW0603100RFKEA; Resistance: 100; Tolerance: ±1%; Power Rating: 1/10W; Cost: 0.1
footprint chip_0603
pins: 1, 2

## RES-00742
designator R?, comment 200
RES SMD 200 OHM 1% 1/10W 0603; Part Number: RES-00742; Manufacturer: Vishay Dale; Manufacturer PN: CRCW0603200RFKEA; Resistance: 200; Tolerance: ±1%; Power Rating: 1/10W; Cost: 0.1
footprint chip_0603
pins: 1, 2

## RES-00743
designator R?, comment 82
RES SMD 82 OHM 1% 1/10W 0603; Part Number: RES-00743; Manufacturer: Vishay Dale; Manufacturer PN: CRCW060382R0FKEA; Resistance: 82; Tolerance: ±1%; Power Rating: 1/10W; Cost: 0.1
footprint chip_0603
pins: 1, 2

## RES-00744
designator R?, comment 1M
RES SMD 1M OHM 1% 1/10W 0603; Part Number: RES-00744; Manufacturer: Vishay Dale; Manufacturer PN: CRCW06031M00FKEA; Resistance: 1M; Tolerance: ±1%; Power Rating: 1/10W; Cost: 0.1
footprint chip_0603
pins: 1, 2

## RES-00745
designator R?, comment 1.5k
RES SMD 1.5K OHM 1% 1/10W 0603; Part Number: RES-00745; Manufacturer: Vishay Dale; Manufacturer PN: CRCW06031K50FKEA; Resistance: 1.5k; Tolerance: ±1%; Power Rating: 1/10W; Cost: 0.1
footprint chip_0603
pins: 1, 2

## RES-00746
designator R?, comment 150k
RES SMD 150K OHM 1% 1/10W 0603; Part Number: RES-00746; Manufacturer: Vishay Dale; Manufacturer PN: CRCW0603150KFKEA; Resistance: 150k; Tolerance: ±1%; Power Rating: 1/10W; Cost: 0.1
footprint chip_0603
pins: 1, 2

## RES-00747
designator R?, comment 33.2
RES SMD 33.2 OHM 1% 1/10W 0603; Part Number: RES-00747; Manufacturer: Vishay Dale; Manufacturer PN: CRCW060333R2FKEA; Resistance: 33.2; Tolerance: ±1%; Power Rating: 1/10W; Cost: 0.1
footprint chip_0603
pins: 1, 2

## RES-00748
designator R?, comment 3.3
RES SMD 3.3 OHM 1% 1/10W 0603; Part Number: RES-00748; Manufacturer: Vishay Dale; Manufacturer PN: CRCW06033R30FKEA; Resistance: 3.3; Tolerance: ±1%; Power Rating: 1/10W; Cost: 0.1
footprint chip_0603
pins: 1, 2

## RES-00749
designator R?, comment 750k
RES SMD 750K OHM 1% 1/10W 0603; Part Number: RES-00749; Manufacturer: Vishay Dale; Manufacturer PN: CRCW0603750KFKEA; Resistance: 750k; Tolerance: ±1%; Power Rating: 1/10W; Cost: 0.1
footprint chip_0603
pins: 1, 2

## RES-00750
designator R?, comment 475
RES SMD 475 OHM 1% 1/10W 0603; Part Number: RES-00750; Manufacturer: Vishay Dale; Manufacturer PN: CRCW0603475RFKEA; Resistance: 475; Tolerance: ±1%; Power Rating: 1/10W; Cost: 0.1
footprint chip_0603
pins: 1, 2

## RES-00751
designator R?, comment 2.49k
RES SMD 2.49K OHM 1% 1/10W 0603; Part Number: RES-00751; Manufacturer: Vishay Dale; Manufacturer PN: CRCW06032K49FKEA; Resistance: 2.49k; Tolerance: ±1%; Power Rating: 1/10W; Cost: 0.1
footprint chip_0603
pins: 1, 2

## RES-00752
designator R?, comment 10M
RES SMD 10M OHM 1% 1/10W 0603; Part Number: RES-00752; Manufacturer: Vishay Dale; Manufacturer PN: CRCW060310M0FKEA; Resistance: 10M; Tolerance: ±1%; Power Rating: 1/10W; Cost: 0.1
footprint chip_0603
pins: 1, 2

## RES-00753
designator R?, comment 4.02k
RES SMD 4.02K OHM 1% 1/10W 0603; Part Number: RES-00753; Manufacturer: Vishay Dale; Manufacturer PN: CRCW06034K02FKEA; Resistance: 4.02k; Tolerance: ±1%; Power Rating: 1/10W; Cost: 0.1
footprint chip_0603
pins: 1, 2

## RES-00754
designator R?, comment 2.05
RES SMD 2.05 OHM 1% 1/10W 0603; Part Number: RES-00754; Manufacturer: Vishay Dale; Manufacturer PN: CRCW06032R05FKEA; Resistance: 2.05; Tolerance: ±1%; Power Rating: 1/10W; Cost: 0.1
footprint chip_0603
pins: 1, 2

## RES-00755
designator R?, comment 499k
RES SMD 499K OHM 1% 1/10W 0603; Part Number: RES-00755; Manufacturer: Vishay Dale; Manufacturer PN: CRCW0603499KFKEA; Resistance: 499k; Tolerance: ±1%; Power Rating: 1/10W; Cost: 0.1
footprint chip_0603
pins: 1, 2

## RES-00756
designator R?, comment 49.9
RES SMD 49.9 OHM 1% 1/10W 0603; Part Number: RES-00756; Manufacturer: Vishay Dale; Manufacturer PN: CRCW060349R9FKEA; Resistance: 49.9; Tolerance: ±1%; Power Rating: 1/10W; Cost: 0.1
footprint chip_0603
pins: 1, 2

## RES-00757
designator R?, comment 4.7k
RES SMD 4.7K OHM 1% 1/10W 0603; Part Number: RES-00757; Manufacturer: Vishay Dale; Manufacturer PN: CRCW06034K70FKEA; Resistance: 4.7k; Tolerance: ±1%; Power Rating: 1/10W; Cost: 0.1
footprint chip_0603
pins: 1, 2

## RES-00758
designator R?, comment 54.9k
RES SMD 54.9K OHM 1% 1/10W 0603; Part Number: RES-00758; Manufacturer: Vishay Dale; Manufacturer PN: CRCW060354K9FKEA; Resistance: 54.9k; Tolerance: ±1%; Power Rating: 1/10W; Cost: 0.1
footprint chip_0603
pins: 1, 2

## RES-00759
designator R?, comment 6.2k
RES SMD 6.2K OHM 1% 1/10W 0603; Part Number: RES-00759; Manufacturer: Vishay Dale; Manufacturer PN: CRCW06036K20FKEA; Resistance: 6.2k; Tolerance: ±1%; Power Rating: 1/10W; Cost: 0.1
footprint chip_0603
pins: 1, 2

## RES-00760
designator R?, comment 18k
RES SMD 18K OHM 1% 1/10W 0603; Part Number: RES-00760; Manufacturer: Vishay Dale; Manufacturer PN: CRCW060318K0FKEA; Resistance: 18k; Tolerance: ±1%; Power Rating: 1/10W; Cost: 0.1
footprint chip_0603
pins: 1, 2

## RES-00761
designator R?, comment 4.87k
RES SMD 4.87K OHM 1% 1/10W 0603; Part Number: RES-00761; Manufacturer: Vishay Dale; Manufacturer PN: CRCW06034K87FKEA; Resistance: 4.87k; Tolerance: ±1%; Power Rating: 1/10W; Cost: 0.1
footprint chip_0603
pins: 1, 2

## RES-00762
designator R?, comment 301
RES SMD 301 OHM 1% 1/10W 0603; Part Number: RES-00762; Manufacturer: Vishay Dale; Manufacturer PN: CRCW0603301RFKEA; Resistance: 301; Tolerance: ±1%; Power Rating: 1/10W; Cost: 0.1
footprint chip_0603
pins: 1, 2

## RES-00763
designator R?, comment 57.6k
RES SMD 57.6K OHM 1% 1/10W 0603; Part Number: RES-00763; Manufacturer: Vishay Dale; Manufacturer PN: CRCW060357K6FKEA; Resistance: 57.6k; Tolerance: ±1%; Power Rating: 1/10W; Cost: 0.1
footprint chip_0603
pins: 1, 2

## RES-00764
designator R?, comment 5.1k
RES SMD 5.1K OHM 1% 1/10W 0603; Part Number: RES-00764; Manufacturer: Vishay Dale; Manufacturer PN: CRCW06035K10FKEA; Resistance: 5.1k; Tolerance: ±1%; Power Rating: 1/10W; Cost: 0.1
footprint chip_0603
pins: 1, 2

## RES-00765
designator R?, comment 2.74k
RES SMD 2.74K OHM 1% 1/10W 0603; Part Number: RES-00765; Manufacturer: Vishay Dale; Manufacturer PN: CRCW06032K74FKEA; Resistance: 2.74k; Tolerance: ±1%; Power Rating: 1/10W; Cost: 0.1
footprint chip_0603
pins: 1, 2

## RES-00766
designator R?, comment 100k
RES SMD 100K OHM 1% 1/10W 0603; Part Number: RES-00766; Manufacturer: Vishay Dale; Manufacturer PN: CRCW0603100KFKEA; Resistance: 100k; Tolerance: ±1%; Power Rating: 1/10W; Cost: 0.1
footprint chip_0603
pins: 1, 2

## RES-00767
designator R?, comment 140
RES SMD 140 OHM 1% 1/10W 0603; Part Number: RES-00767; Manufacturer: Vishay Dale; Manufacturer PN: CRCW0603140RFKEA; Resistance: 140; Tolerance: ±1%; Power Rating: 1/10W; Cost: 0.1
footprint chip_0603
pins: 1, 2

## RES-00768
designator R?, comment 24k
RES SMD 24K OHM 1% 1/10W 0603; Part Number: RES-00768; Manufacturer: Vishay Dale; Manufacturer PN: CRCW060324K0FKEA; Resistance: 24k; Tolerance: ±1%; Power Rating: 1/10W; Cost: 0.1
footprint chip_0603
pins: 1, 2

## RES-00769
designator R?, comment 2.4k
RES SMD 2.4K OHM 1% 1/10W 0603; Part Number: RES-00769; Manufacturer: Vishay Dale; Manufacturer PN: CRCW06032K40FKEA; Resistance: 2.4k; Tolerance: ±1%; Power Rating: 1/10W; Cost: 0.1
footprint chip_0603
pins: 1, 2

## RES-00770
designator R?, comment 22
RES SMD 22 OHM 1% 1/10W 0603; Part Number: RES-00770; Manufacturer: Vishay Dale; Manufacturer PN: CRCW060322R0FKEA; Resistance: 22; Tolerance: ±1%; Power Rating: 1/10W; Cost: 0.1
footprint chip_0603
pins: 1, 2

## RES-00771
designator R?, comment 8.25k
RES SMD 8.25K OHM 1% 1/10W 0603; Part Number: RES-00771; Manufacturer: Vishay Dale; Manufacturer PN: CRCW06038K25FKEA; Resistance: 8.25k; Tolerance: ±1%; Power Rating: 1/10W; Cost: 0.1
footprint chip_0603
pins: 1, 2

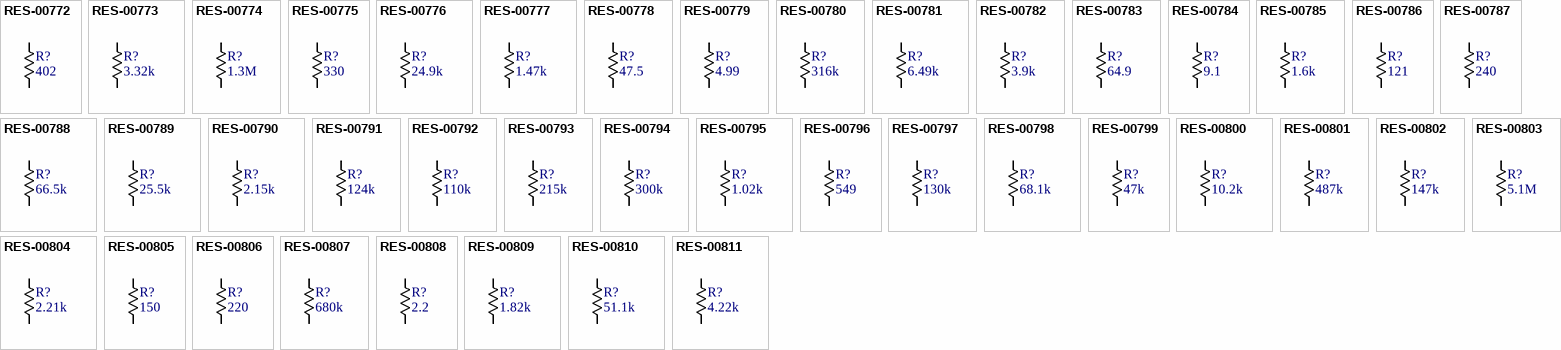
[diagram p21: symbols RES-00772 to RES-00811]

## RES-00772
designator R?, comment 402
RES SMD 402 OHM 1% 1/10W 0603; Part Number: RES-00772; Manufacturer: Vishay Dale; Manufacturer PN: CRCW0603402RFKEA; Resistance: 402; Tolerance: ±1%; Power Rating: 1/10W; Cost: 0.1
footprint chip_0603
pins: 1, 2

## RES-00773
designator R?, comment 3.32k
RES SMD 3.32K OHM 1% 1/10W 0603; Part Number: RES-00773; Manufacturer: Vishay Dale; Manufacturer PN: CRCW06033K32FKEA; Resistance: 3.32k; Tolerance: ±1%; Power Rating: 1/10W; Cost: 0.1
footprint chip_0603
pins: 1, 2

## RES-00774
designator R?, comment 1.3M
RES SMD 1.3M OHM 1% 1/10W 0603; Part Number: RES-00774; Manufacturer: Vishay Dale; Manufacturer PN: CRCW06031M30FKEA; Resistance: 1.3M; Tolerance: ±1%; Power Rating: 1/10W; Cost: 0.1
footprint chip_0603
pins: 1, 2

## RES-00775
designator R?, comment 330
RES SMD 330 OHM 1% 1/10W 0603; Part Number: RES-00775; Manufacturer: Vishay Dale; Manufacturer PN: CRCW0603330RFKEA; Resistance: 330; Tolerance: ±1%; Power Rating: 1/10W; Cost: 0.1
footprint chip_0603
pins: 1, 2

## RES-00776
designator R?, comment 24.9k
RES SMD 24.9K OHM 1% 1/10W 0603; Part Number: RES-00776; Manufacturer: Vishay Dale; Manufacturer PN: CRCW060324K9FKEA; Resistance: 24.9k; Tolerance: ±1%; Power Rating: 1/10W; Cost: 0.1
footprint chip_0603
pins: 1, 2

## RES-00777
designator R?, comment 1.47k
RES SMD 1.47K OHM 1% 1/10W 0603; Part Number: RES-00777; Manufacturer: Vishay Dale; Manufacturer PN: CRCW06031K47FKEA; Resistance: 1.47k; Tolerance: ±1%; Power Rating: 1/10W; Cost: 0.1
footprint chip_0603
pins: 1, 2

## RES-00778
designator R?, comment 47.5
RES SMD 47.5 OHM 1% 1/10W 0603; Part Number: RES-00778; Manufacturer: Vishay Dale; Manufacturer PN: CRCW060347R5FKEA; Resistance: 47.5; Tolerance: ±1%; Power Rating: 1/10W; Cost: 0.1
footprint chip_0603
pins: 1, 2

## RES-00779
designator R?, comment 4.99
RES SMD 4.99 OHM 1% 1/10W 0603; Part Number: RES-00779; Manufacturer: Vishay Dale; Manufacturer PN: CRCW06034R99FKEA; Resistance: 4.99; Tolerance: ±1%; Power Rating: 1/10W; Cost: 0.1
footprint chip_0603
pins: 1, 2

## RES-00780
designator R?, comment 316k
RES SMD 316K OHM 1% 1/10W 0603; Part Number: RES-00780; Manufacturer: Vishay Dale; Manufacturer PN: CRCW0603316KFKEA; Resistance: 316k; Tolerance: ±1%; Power Rating: 1/10W; Cost: 0.1
footprint chip_0603
pins: 1, 2

## RES-00781
designator R?, comment 6.49k
RES SMD 6.49K OHM 1% 1/10W 0603; Part Number: RES-00781; Manufacturer: Vishay Dale; Manufacturer PN: CRCW06036K49FKEA; Resistance: 6.49k; Tolerance: ±1%; Power Rating: 1/10W; Cost: 0.1
footprint chip_0603
pins: 1, 2

## RES-00782
designator R?, comment 3.9k
RES SMD 3.9K OHM 1% 1/10W 0603; Part Number: RES-00782; Manufacturer: Vishay Dale; Manufacturer PN: CRCW06033K90FKEA; Resistance: 3.9k; Tolerance: ±1%; Power Rating: 1/10W; Cost: 0.1
footprint chip_0603
pins: 1, 2

## RES-00783
designator R?, comment 64.9
RES SMD 64.9 OHM 1% 1/10W 0603; Part Number: RES-00783; Manufacturer: Vishay Dale; Manufacturer PN: CRCW060364R9FKEA; Resistance: 64.9; Tolerance: ±1%; Power Rating: 1/10W; Cost: 0.1
footprint chip_0603
pins: 1, 2

## RES-00784
designator R?, comment 9.1
RES SMD 9.1 OHM 1% 1/10W 0603; Part Number: RES-00784; Manufacturer: Vishay Dale; Manufacturer PN: CRCW06039R10FKEA; Resistance: 9.1; Tolerance: ±1%; Power Rating: 1/10W; Cost: 0.1
footprint chip_0603
pins: 1, 2

## RES-00785
designator R?, comment 1.6k
RES SMD 1.6K OHM 1% 1/10W 0603; Part Number: RES-00785; Manufacturer: Vishay Dale; Manufacturer PN: CRCW06031K60FKEA; Resistance: 1.6k; Tolerance: ±1%; Power Rating: 1/10W; Cost: 0.1
footprint chip_0603
pins: 1, 2

## RES-00786
designator R?, comment 121
RES SMD 121 OHM 1% 1/10W 0603; Part Number: RES-00786; Manufacturer: Vishay Dale; Manufacturer PN: CRCW0603121RFKEA; Resistance: 121; Tolerance: ±1%; Power Rating: 1/10W; Cost: 0.1
footprint chip_0603
pins: 1, 2

## RES-00787
designator R?, comment 240
RES SMD 240 OHM 1% 1/10W 0603; Part Number: RES-00787; Manufacturer: Vishay Dale; Manufacturer PN: CRCW0603240RFKEA; Resistance: 240; Tolerance: ±1%; Power Rating: 1/10W; Cost: 0.1
footprint chip_0603
pins: 1, 2

## RES-00788
designator R?, comment 66.5k
RES SMD 66.5K OHM 1% 1/10W 0603; Part Number: RES-00788; Manufacturer: Vishay Dale; Manufacturer PN: CRCW060366K5FKEA; Resistance: 66.5k; Tolerance: ±1%; Power Rating: 1/10W; Cost: 0.1
footprint chip_0603
pins: 1, 2

## RES-00789
designator R?, comment 25.5k
RES SMD 25.5K OHM 1% 1/10W 0603; Part Number: RES-00789; Manufacturer: Vishay Dale; Manufacturer PN: CRCW060325K5FKEA; Resistance: 25.5k; Tolerance: ±1%; Power Rating: 1/10W; Cost: 0.1
footprint chip_0603
pins: 1, 2

## RES-00790
designator R?, comment 2.15k
RES SMD 2.15K OHM 1% 1/10W 0603; Part Number: RES-00790; Manufacturer: Vishay Dale; Manufacturer PN: CRCW06032K15FKEA; Resistance: 2.15k; Tolerance: ±1%; Power Rating: 1/10W; Cost: 0.1
footprint chip_0603
pins: 1, 2

## RES-00791
designator R?, comment 124k
RES SMD 124K OHM 1% 1/10W 0603; Part Number: RES-00791; Manufacturer: Vishay Dale; Manufacturer PN: CRCW0603124KFKEA; Resistance: 124k; Tolerance: ±1%; Power Rating: 1/10W; Cost: 0.1
footprint chip_0603
pins: 1, 2

## RES-00792
designator R?, comment 110k
RES SMD 110K OHM 1% 1/10W 0603; Part Number: RES-00792; Manufacturer: Vishay Dale; Manufacturer PN: CRCW0603110KFKEA; Resistance: 110k; Tolerance: ±1%; Power Rating: 1/10W; Cost: 0.1
footprint chip_0603
pins: 1, 2

## RES-00793
designator R?, comment 215k
RES SMD 215K OHM 1% 1/10W 0603; Part Number: RES-00793; Manufacturer: Vishay Dale; Manufacturer PN: CRCW0603215KFKEA; Resistance: 215k; Tolerance: ±1%; Power Rating: 1/10W; Cost: 0.1
footprint chip_0603
pins: 1, 2

## RES-00794
designator R?, comment 300k
RES SMD 300K OHM 1% 1/10W 0603; Part Number: RES-00794; Manufacturer: Vishay Dale; Manufacturer PN: CRCW0603300KFKEA; Resistance: 300k; Tolerance: ±1%; Power Rating: 1/10W; Cost: 0.1
footprint chip_0603
pins: 1, 2

## RES-00795
designator R?, comment 1.02k
RES SMD 1.02K OHM 1% 1/10W 0603; Part Number: RES-00795; Manufacturer: Vishay Dale; Manufacturer PN: CRCW06031K02FKEA; Resistance: 1.02k; Tolerance: ±1%; Power Rating: 1/10W; Cost: 0.1
footprint chip_0603
pins: 1, 2

## RES-00796
designator R?, comment 549
RES SMD 549 OHM 1% 1/10W 0603; Part Number: RES-00796; Manufacturer: Vishay Dale; Manufacturer PN: CRCW0603549RFKEA; Resistance: 549; Tolerance: ±1%; Power Rating: 1/10W; Cost: 0.1
footprint chip_0603
pins: 1, 2

## RES-00797
designator R?, comment 130k
RES SMD 130K OHM 1% 1/10W 0603; Part Number: RES-00797; Manufacturer: Vishay Dale; Manufacturer PN: CRCW0603130KFKEA; Resistance: 130k; Tolerance: ±1%; Power Rating: 1/10W; Cost: 0.1
footprint chip_0603
pins: 1, 2

## RES-00798
designator R?, comment 68.1k
RES SMD 68.1K OHM 1% 1/10W 0603; Part Number: RES-00798; Manufacturer: Vishay Dale; Manufacturer PN: CRCW060368K1FKEA; Resistance: 68.1k; Tolerance: ±1%; Power Rating: 1/10W; Cost: 0.1
footprint chip_0603
pins: 1, 2

## RES-00799
designator R?, comment 47k
RES SMD 47K OHM 1% 1/10W 0603; Part Number: RES-00799; Manufacturer: Vishay Dale; Manufacturer PN: CRCW060347K0FKEA; Resistance: 47k; Tolerance: ±1%; Power Rating: 1/10W; Cost: 0.1
footprint chip_0603
pins: 1, 2

## RES-00800
designator R?, comment 10.2k
RES SMD 10.2K OHM 1% 1/10W 0603; Part Number: RES-00800; Manufacturer: Vishay Dale; Manufacturer PN: CRCW060310K2FKEA; Resistance: 10.2k; Tolerance: ±1%; Power Rating: 1/10W; Cost: 0.1
footprint chip_0603
pins: 1, 2

## RES-00801
designator R?, comment 487k
RES SMD 487K OHM 1% 1/10W 0603; Part Number: RES-00801; Manufacturer: Vishay Dale; Manufacturer PN: CRCW0603487KFKEA; Resistance: 487k; Tolerance: ±1%; Power Rating: 1/10W; Cost: 0.1
footprint chip_0603
pins: 1, 2

## RES-00802
designator R?, comment 147k
RES SMD 147K OHM 1% 1/10W 0603; Part Number: RES-00802; Manufacturer: Vishay Dale; Manufacturer PN: CRCW0603147KFKEA; Resistance: 147k; Tolerance: ±1%; Power Rating: 1/10W; Cost: 0.1
footprint chip_0603
pins: 1, 2

## RES-00803
designator R?, comment 5.1M
RES SMD 5.1M OHM 1% 1/10W 0603; Part Number: RES-00803; Manufacturer: Vishay Dale; Manufacturer PN: CRCW06035M10FKEA; Resistance: 5.1M; Tolerance: ±1%; Power Rating: 1/10W; Cost: 0.1
footprint chip_0603
pins: 1, 2

## RES-00804
designator R?, comment 2.21k
RES SMD 2.21K OHM 1% 1/10W 0603; Part Number: RES-00804; Manufacturer: Vishay Dale; Manufacturer PN: CRCW06032K21FKEA; Resistance: 2.21k; Tolerance: ±1%; Power Rating: 1/10W; Cost: 0.1
footprint chip_0603
pins: 1, 2

## RES-00805
designator R?, comment 150
RES SMD 150 OHM 1% 1/10W 0603; Part Number: RES-00805; Manufacturer: Vishay Dale; Manufacturer PN: CRCW0603150RFKEA; Resistance: 150; Tolerance: ±1%; Power Rating: 1/10W; Cost: 0.1
footprint chip_0603
pins: 1, 2

## RES-00806
designator R?, comment 220
RES SMD 220 OHM 1% 1/10W 0603; Part Number: RES-00806; Manufacturer: Vishay Dale; Manufacturer PN: CRCW0603220RFKEA; Resistance: 220; Tolerance: ±1%; Power Rating: 1/10W; Cost: 0.1
footprint chip_0603
pins: 1, 2

## RES-00807
designator R?, comment 680k
RES SMD 680K OHM 1% 1/10W 0603; Part Number: RES-00807; Manufacturer: Vishay Dale; Manufacturer PN: CRCW0603680KFKEA; Resistance: 680k; Tolerance: ±1%; Power Rating: 1/10W; Cost: 0.1
footprint chip_0603
pins: 1, 2

## RES-00808
designator R?, comment 2.2
RES SMD 2.2 OHM 1% 1/10W 0603; Part Number: RES-00808; Manufacturer: Vishay Dale; Manufacturer PN: CRCW06032R20FKEA; Resistance: 2.2; Tolerance: ±1%; Power Rating: 1/10W; Cost: 0.1
footprint chip_0603
pins: 1, 2

## RES-00809
designator R?, comment 1.82k
RES SMD 1.82K OHM 1% 1/10W 0603; Part Number: RES-00809; Manufacturer: Vishay Dale; Manufacturer PN: CRCW06031K82FKEA; Resistance: 1.82k; Tolerance: ±1%; Power Rating: 1/10W; Cost: 0.1
footprint chip_0603
pins: 1, 2

## RES-00810
designator R?, comment 51.1k
RES SMD 51.1K OHM 1% 1/10W 0603; Part Number: RES-00810; Manufacturer: Vishay Dale; Manufacturer PN: CRCW060351K1FKEA; Resistance: 51.1k; Tolerance: ±1%; Power Rating: 1/10W; Cost: 0.1
footprint chip_0603
pins: 1, 2

## RES-00811
designator R?, comment 4.22k
RES SMD 4.22K OHM 1% 1/10W 0603; Part Number: RES-00811; Manufacturer: Vishay Dale; Manufacturer PN: CRCW06034K22FKEA; Resistance: 4.22k; Tolerance: ±1%; Power Rating: 1/10W; Cost: 0.1
footprint chip_0603
pins: 1, 2

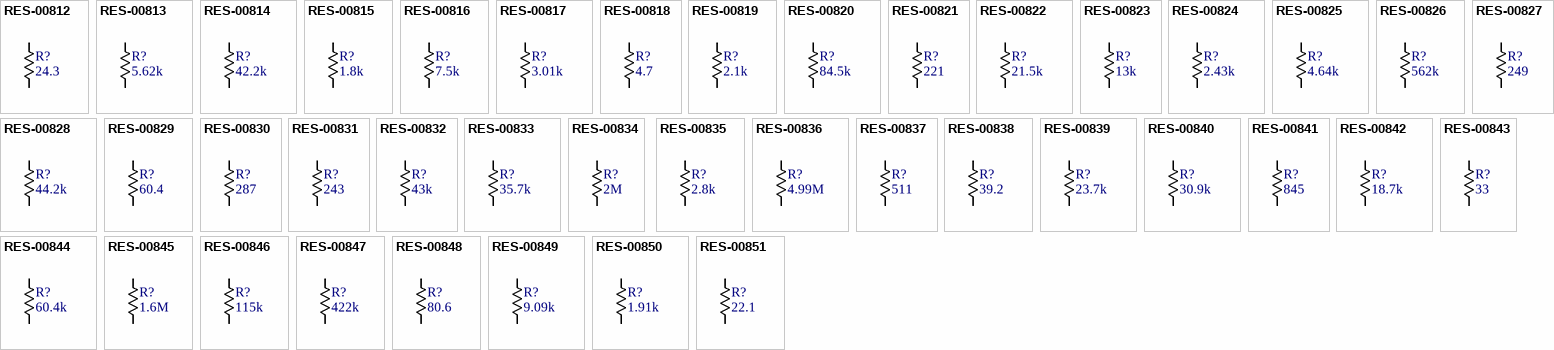
[diagram p22: symbols RES-00812 to RES-00851]

## RES-00812
designator R?, comment 24.3
RES SMD 24.3 OHM 1% 1/10W 0603; Part Number: RES-00812; Manufacturer: Vishay Dale; Manufacturer PN: CRCW060324R3FKEA; Resistance: 24.3; Tolerance: ±1%; Power Rating: 1/10W; Cost: 0.1
footprint chip_0603
pins: 1, 2

## RES-00813
designator R?, comment 5.62k
RES SMD 5.62K OHM 1% 1/10W 0603; Part Number: RES-00813; Manufacturer: Vishay Dale; Manufacturer PN: CRCW06035K62FKEA; Resistance: 5.62k; Tolerance: ±1%; Power Rating: 1/10W; Cost: 0.1
footprint chip_0603
pins: 1, 2

## RES-00814
designator R?, comment 42.2k
RES SMD 42.2K OHM 1% 1/10W 0603; Part Number: RES-00814; Manufacturer: Vishay Dale; Manufacturer PN: CRCW060342K2FKEA; Resistance: 42.2k; Tolerance: ±1%; Power Rating: 1/10W; Cost: 0.1
footprint chip_0603
pins: 1, 2

## RES-00815
designator R?, comment 1.8k
RES SMD 1.8K OHM 1% 1/10W 0603; Part Number: RES-00815; Manufacturer: Vishay Dale; Manufacturer PN: CRCW06031K80FKEA; Resistance: 1.8k; Tolerance: ±1%; Power Rating: 1/10W; Cost: 0.1
footprint chip_0603
pins: 1, 2

## RES-00816
designator R?, comment 7.5k
RES SMD 7.5K OHM 1% 1/10W 0603; Part Number: RES-00816; Manufacturer: Vishay Dale; Manufacturer PN: CRCW06037K50FKEA; Resistance: 7.5k; Tolerance: ±1%; Power Rating: 1/10W; Cost: 0.1
footprint chip_0603
pins: 1, 2

## RES-00817
designator R?, comment 3.01k
RES SMD 3.01K OHM 1% 1/10W 0603; Part Number: RES-00817; Manufacturer: Vishay Dale; Manufacturer PN: CRCW06033K01FKEA; Resistance: 3.01k; Tolerance: ±1%; Power Rating: 1/10W; Cost: 0.1
footprint chip_0603
pins: 1, 2

## RES-00818
designator R?, comment 4.7
RES SMD 4.7 OHM 1% 1/10W 0603; Part Number: RES-00818; Manufacturer: Vishay Dale; Manufacturer PN: CRCW06034R70FKEA; Resistance: 4.7; Tolerance: ±1%; Power Rating: 1/10W; Cost: 0.1
footprint chip_0603
pins: 1, 2

## RES-00819
designator R?, comment 2.1k
RES SMD 2.1K OHM 1% 1/10W 0603; Part Number: RES-00819; Manufacturer: Vishay Dale; Manufacturer PN: CRCW06032K10FKEA; Resistance: 2.1k; Tolerance: ±1%; Power Rating: 1/10W; Cost: 0.1
footprint chip_0603
pins: 1, 2

## RES-00820
designator R?, comment 84.5k
RES SMD 84.5K OHM 1% 1/10W 0603; Part Number: RES-00820; Manufacturer: Vishay Dale; Manufacturer PN: CRCW060384K5FKEA; Resistance: 84.5k; Tolerance: ±1%; Power Rating: 1/10W; Cost: 0.1
footprint chip_0603
pins: 1, 2

## RES-00821
designator R?, comment 221
RES SMD 221 OHM 1% 1/10W 0603; Part Number: RES-00821; Manufacturer: Vishay Dale; Manufacturer PN: CRCW0603221RFKEA; Resistance: 221; Tolerance: ±1%; Power Rating: 1/10W; Cost: 0.1
footprint chip_0603
pins: 1, 2

## RES-00822
designator R?, comment 21.5k
RES SMD 21.5K OHM 1% 1/10W 0603; Part Number: RES-00822; Manufacturer: Vishay Dale; Manufacturer PN: CRCW060321K5FKEA; Resistance: 21.5k; Tolerance: ±1%; Power Rating: 1/10W; Cost: 0.1
footprint chip_0603
pins: 1, 2

## RES-00823
designator R?, comment 13k
RES SMD 13K OHM 1% 1/10W 0603; Part Number: RES-00823; Manufacturer: Vishay Dale; Manufacturer PN: CRCW060313K0FKEA; Resistance: 13k; Tolerance: ±1%; Power Rating: 1/10W; Cost: 0.1
footprint chip_0603
pins: 1, 2